# EAGLE library part MAX3390E (library Robot)
Low-Voltage Level Translator Page du fabricant: http://www.maxim-ic.com/quick_view2.cfm/qv_pk/3253 Datasheet: http://datasheets.maxim-ic.com/en/ds/MAX3372E-MAX3393E.pdf
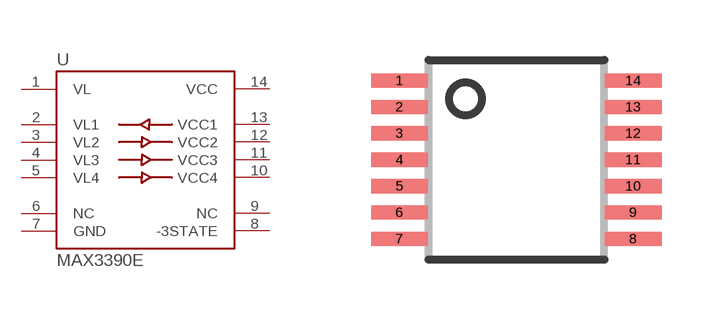
[diagram p7: symbol with the pads of TSSOP-14; footprint TSSOP-14]

Designator prefix -

## MAX3390EEUD+  [TSSOP-14]
1  VL  pwr
2  VL1  out
3  VL2  in
4  VL3  in
5  VL4  in
6  NC  nc
7  GND  pwr
8  -3STATE  in
9  NC  nc
10  VCC4  out
11  VCC3  out
12  VCC2  out
13  VCC1  in
14  VCC  pwr

## Footprint TSSOP-14 (pad centres in mm)
TSSOP-14 Package outline: http://pdfserv.maxim-ic.com/package_dwgs/21-0066.PDF Land pattern: http://pdfserv.maxim-ic.com/land_patterns/90-0113.PDF
smd 1.422 x 0.356: 1 -2.921,1.981; 2 -2.921,1.321; 3 -2.921,0.66; 4 -2.921,0; 5 -2.921,-0.66; 6 -2.921,-1.321; 7 -2.921,-1.981; 8 2.921,-1.981; 9 2.921,-1.321; 10 2.921,-0.66; 11 2.921,0; 12 2.921,0.66; 13 2.921,1.321; 14 2.921,1.981